# Altium footprint library STM32F4x1CxU6 CoreBoard WeActStudio.PcbLib: 1 footprints
Each footprint in its own frame and in the unit in brackets; x right, y up, seen from the top. Pads: shape width x height; smd on the part's side, far side on the other; paste and mask are expansions set on the pad; w line width, h text height; cw(c..) or ccw(c..) is an arc to the next point about the centre after c.
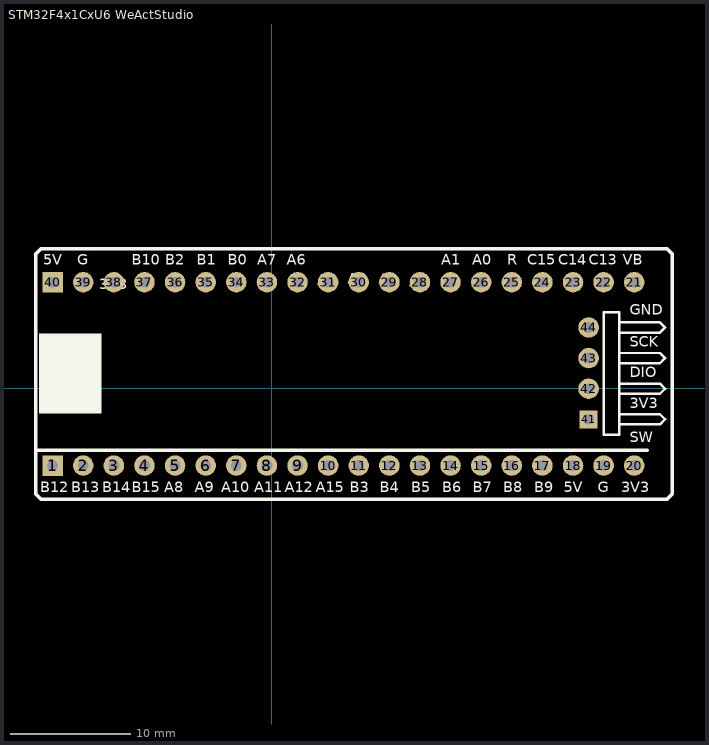
[diagram p0: the footprint, top view; thin cyan lines are the x and y axes]

## STM32F4x1CxU6 WeActStudio [mm]
height 2.54
pads (44):
  rect 1.7x1.7 hole 0.9: 1(-18.161,-6.401) 40(-18.161,8.814)
  round 1.7 hole 0.9: 2(-15.621,-6.401) 3(-13.081,-6.401) 4(-10.541,-6.401) 5(-8.001,-6.401) 6(-5.461,-6.401) 7(-2.921,-6.401) 8(-0.381,-6.401) 9(2.159,-6.401) 10(4.699,-6.401) 11(7.239,-6.401) 12(9.779,-6.401) 13(12.319,-6.401) 14(14.859,-6.401) 15(17.399,-6.401) 16(19.939,-6.401) 17(22.479,-6.401) 18(25.019,-6.401) 19(27.559,-6.401) 20(30.099,-6.401) 21(30.099,8.814) 22(27.559,8.814) 23(25.019,8.814) 24(22.479,8.814) 25(19.939,8.814) 26(17.399,8.814) 27(14.859,8.814) 28(12.319,8.814) 29(9.779,8.814) 30(7.239,8.814) 31(4.699,8.814) 32(2.159,8.814) 33(-0.381,8.814) 34(-2.921,8.814) 35(-5.461,8.814) 36(-8.001,8.814) 37(-10.541,8.814) 38(-13.081,8.814) 39(-15.621,8.814) 42(26.314,-0.025) 43(26.314,2.515) 44(26.314,5.055)
  rect 1.5x1.5 hole 0.9: 41(26.314,-2.565)
Top Overlay:
  rectangle: -19.304,-2.083 -14.097,4.547
  lines w0.2: 28.854,-2.989 32.241,-2.989 32.664,-2.565 32.241,-2.142 28.854,-2.142 ; 28.854,-0.449 32.241,-0.449 32.664,-0.025 32.241,0.398 28.854,0.398 ; 28.854,2.091 32.241,2.091 32.664,2.515 32.241,2.938 28.854,2.938 ; 28.854,4.631 32.241,4.631 32.664,5.055 32.241,5.478 28.854,5.478 ; 27.584,-3.835 28.854,-3.835 28.854,6.325 27.584,6.325 27.584,-3.835
  lines w0.3: -19.558,-5.131 31.191,-5.131
  lines w0.305: -19.558,-8.763 -19.126,-9.195 32.817,-9.195 33.249,-8.763 33.249,11.151 32.815,11.584 -19.125,11.584 -19.558,11.151 -19.558,-8.763
  text "GND" at 29.743,5.817 h1.52
  text "A11" at -1.448,-8.89 h1.52
  text "B1" at -6.223,9.982 h1.52
  text "A9" at -6.375,-8.89 h1.52
  text "B13" at -16.612,-8.89 h1.52
  text "C13" at 26.314,9.982 h1.52
  text "A10" at -4.191,-8.89 h1.52
  text "G" at 27.076,-8.89 h1.52
  text "B8" at 19.245,-8.89 h1.52
  text "5V" at -18.948,9.982 h1.52
  text "C15" at 21.234,9.982 h1.52
  text "B12" at -19.177,-8.89 h1.52
  text "A1" at 14.097,9.982 h1.52
  text "3V3" at -14.275,7.925 h1.52
  text "G" at -16.104,9.982 h1.52
  text "B10" at -11.582,9.982 h1.52
  text "A2" at 11.43,8.153 h1.52
  text "B15" at -11.582,-8.89 h1.52
  text "A6" at 1.27,9.982 h1.52
  text "SCK" at 29.743,3.158 h1.52
  text "B6" at 14.148,-8.89 h1.52
  text "A4" at 6.325,8.407 h1.52
  text "A15" at 3.683,-8.89 h1.52
  text "B2" at -8.814,9.982 h1.52
  text "B4" at 9,-8.89 h1.52
  text "A0" at 16.645,9.982 h1.52
  text "SW" at 29.743,-4.75 h1.52
  text "C14" at 23.8,9.982 h1.52
  text "A7" at -1.168,9.982 h1.52
  text "A12" at 1.118,-8.89 h1.52
  text "B0" at -3.632,9.982 h1.52
  text "A8" at -8.89,-8.89 h1.52
  text "B3" at 6.502,-8.89 h1.52
  text "A5" at 3.785,8.306 h1.52
  text "R" at 19.575,9.982 h1.52
  text "DIO" at 29.743,0.627 h1.52
  text "5V" at 24.258,-8.915 h1.52
  text "B7" at 16.696,-8.89 h1.52
  text "B9" at 21.793,-8.89 h1.52
  text "VB" at 29.159,9.982 h1.52
  text "B14" at -14.046,-8.89 h1.52
  text "A3" at 8.89,8.357 h1.52
  text "3V3" at 29.007,-8.89 h1.52
  text "B5" at 11.599,-8.89 h1.52
  text "3V3" at 29.743,-1.93 h1.52
Bottom Overlay:
  lines w0.2: -19.431,-8.738 -19.431,-5.131 -17.526,-5.131 31.369,-5.131 31.369,-9.068 ; -19.431,11.252 -19.431,7.544 31.369,7.544 31.369,11.481
  text "C14" at 26.213,10.058 h1.52
  text "B14" at -11.684,-8.941 h1.52
  text "B3" at 8.052,-8.941 h1.52
  text "B1" at -4.801,10.058 h1.52
  text "A11" at 0.889,-8.941 h1.52
  text "G" at -15.138,10.058 h1.52
  text "5V" at 25.804,-8.928 h1.52
  text "B15" at -9.169,-8.941 h1.52
  text "G" at 28.448,-8.941 h1.52
  text "B0" at -2.083,10.058 h1.52
  text "B10" at -9.322,10.058 h1.52
  text "B12" at -16.866,-8.941 h1.52
  text "A3" at 10.668,10.058 h1.52
  text "3V3" at -12.014,10.058 h1.52
  text "B9" at 23.343,-8.941 h1.52
  text "VB" at 31.09,10.058 h1.52
  text "B5" at 13.081,-8.941 h1.52
  text "A2" at 13.233,10.058 h1.52
  text "A1" at 15.697,10.058 h1.52
  text "B13" at -14.275,-8.941 h1.52
  text "R" at 20.396,10.058 h1.52
  text "A10" at -1.727,-8.941 h1.52
  text "A12" at 3.556,-8.941 h1.52
  text "5V" at -17.323,10.058 h1.52
  text "A0" at 18.339,10.058 h1.52
  text "C15" at 23.647,10.058 h1.52
  text "A4" at 8.204,10.058 h1.52
  text "B2" at -7.239,10.058 h1.52
  text "B7" at 18.161,-8.941 h1.52
  text "A6" at 3.023,10.058 h1.52
  text "A15" at 6.147,-8.941 h1.52
  text "B4" at 10.595,-8.941 h1.52
  text "A9" at -4.648,-8.941 h1.52
  text "A8" at -7.137,-8.941 h1.52
  text "A7" at 0.432,10.058 h1.52
  text "3V3" at 30.963,-8.941 h1.52
  text "B8" at 20.726,-8.941 h1.52
  text "C13" at 28.702,10.058 h1.52
  text "B6" at 15.748,-8.941 h1.52
  text "A5" at 5.512,10.058 h1.52